# Altium footprint library Sheet_12085BUZZER.PcbLib: 1 footprints
Each footprint in its own frame and in the unit in brackets; x right, y up, seen from the top. Pads: shape width x height; smd on the part's side, far side on the other; paste and mask are expansions set on the pad; w line width, h text height; cw(c..) or ccw(c..) is an arc to the next point about the centre after c.
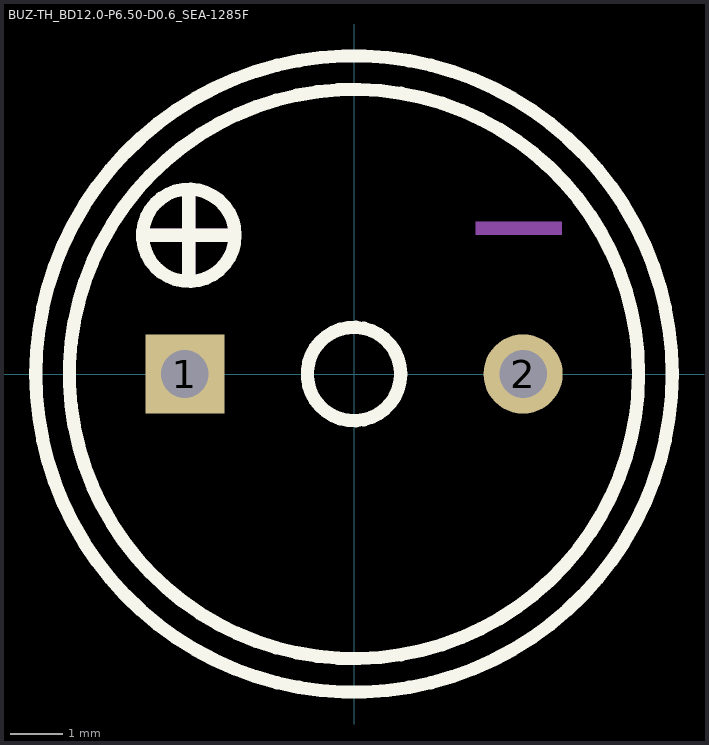
[diagram p0: the footprint, top view; thin cyan lines are the x and y axes]

## BUZ-TH_BD12.0-P6.50-D0.6_SEA-1285F [mil]
pads (2):
  rect 60x60 hole 36: 1(-127.95,0)
  round 60 hole 36: 2(127.95,0)
Top Overlay:
  circle w10: c0,0 r215.41
  circle w10: c0,0 r35.36
  circle w10: c-125,105 r35
  circle w10: c0,0 r240.83
  lines w10: -160,105 -90,105 ; -125,75 -125,135
Mechanical 15:
  region: 92.28,115.37 92.28,105.37 157.28,105.37 157.28,115.37
  region: -130,72.5 -120,72.5 -120,137.5 -130,137.5
  region: -157.5,110 -157.5,100 -92.5,100 -92.5,110